# Altium footprint library Capasitors.PcbLib: 2 footprints
Each footprint in its own frame and in the unit in brackets; x right, y up, seen from the top. Pads: shape width x height; smd on the part's side, far side on the other; paste and mask are expansions set on the pad; w line width, h text height; cw(c..) or ccw(c..) is an arc to the next point about the centre after c.
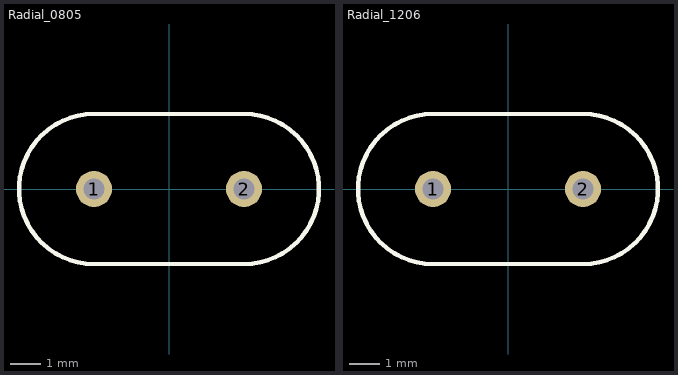
[diagram p0: the footprints below, top view; thin cyan lines are the x and y axes]

## Radial_0805 [mm]
pads (2):
  round 1.2 hole 0.7: 1(-2.5,0) 2(2.5,0)
Top Overlay:
  lines w0.15: -2.5,-2.5 cw(c-2.5,0) -2.5,2.5 2.5,2.5 cw(c2.5,0) 2.5,-2.5 -2.5,-2.5
3D body "K10-17B_0805.STEP": height 5.6, standoff -2.6, extent -2.75,-1.895 2.75,1.905

## Radial_1206 [mm]
pads (2):
  round 1.2 hole 0.7: 1(-2.5,0) 2(2.5,0)
Top Overlay:
  lines w0.15: -2.5,-2.5 cw(c-2.5,0) -2.5,2.5 2.5,2.5 cw(c2.5,0) 2.5,-2.5 -2.5,-2.5
3D body "K10-17B_1206.STEP": height 7.25, standoff -2.12, extent -2.748,-1.905 2.748,1.895